# EAGLE library part MCP73213 (library Synapseware-transistors)
MCP73213, DFN-10 package, 3mm x 3mm Dual-Cell Li-Ion / Li-Polymer Battery Charge Management Controller with Input Overvoltage Protection MFG Part #: MCP73213-A6SI/MF 8.4v Charge Current (mA) E24 Resistor (Ω) ------------------- ---------------- 130 10k 150 8.45k 200 6.20k 250 4.99k 300 4.02k 350 3.40k 400 3.00k 450 2.61k 500 2.32k 550 2.10k 600 1.91k 650 1.78k 700 1.62k 750 1.50k 800 1.40k 850 1.33k 900 1.24k 950 1.18k 1000 1.10k 1100 1.00k
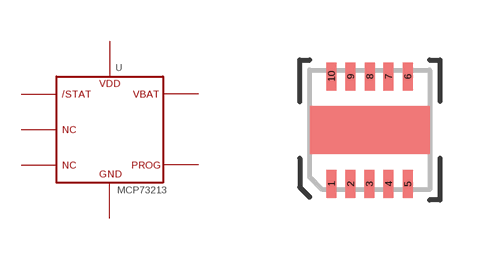
[diagram p13: symbol with the pads of DFN-10; footprint DFN-10]

Designator prefix -

## MCP73213DFN-10  [DFN-10]
1  VDD-1
2  VDD-2
3  VBAT-3
4  VBAT-4
5  NC-5  nc
6  NC-6  nc
7  STAT-7
8  GND-8
9  GND-9
10  PROG-10

## Footprint DFN-10 (pad centres in mm)
3mm x 3mm DFN-10 pin package
smd 0.25 x 0.7: 1 0.54,-2.85; 2 1.02,-2.85; 3 1.49,-2.85; 4 1.97,-2.85; 5 2.45,-2.85; 6 2.45,-0.16; 7 1.97,-0.16; 8 1.5,-0.16; 9 1.02,-0.16; 10 0.54,-0.16